# Altium schematic symbol library SS54.SchLib: 1 symbol
Pins are listed as number, name and electrical type; pins without a type are passive.

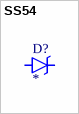
[diagram p0: symbol SS54]

## SS54
designator D?
SCHOTTKY DIODES 40Vpeak, 28Vrms 5A (SBD) SMA(DO-214AC); MF: {'manufacturer': u'Honeywell Sensing'}; MP: SS54; Price: None; Availability: Unavailable; Package: None; Value: *
footprint DO-214AC
pins: A, C